# Altium footprint library CAPAE1080X550N.PcbLib: 1 footprints
Each footprint in its own frame and in the unit in brackets; x right, y up, seen from the top. Pads: shape width x height; smd on the part's side, far side on the other; paste and mask are expansions set on the pad; w line width, h text height; cw(c..) or ccw(c..) is an arc to the next point about the centre after c.
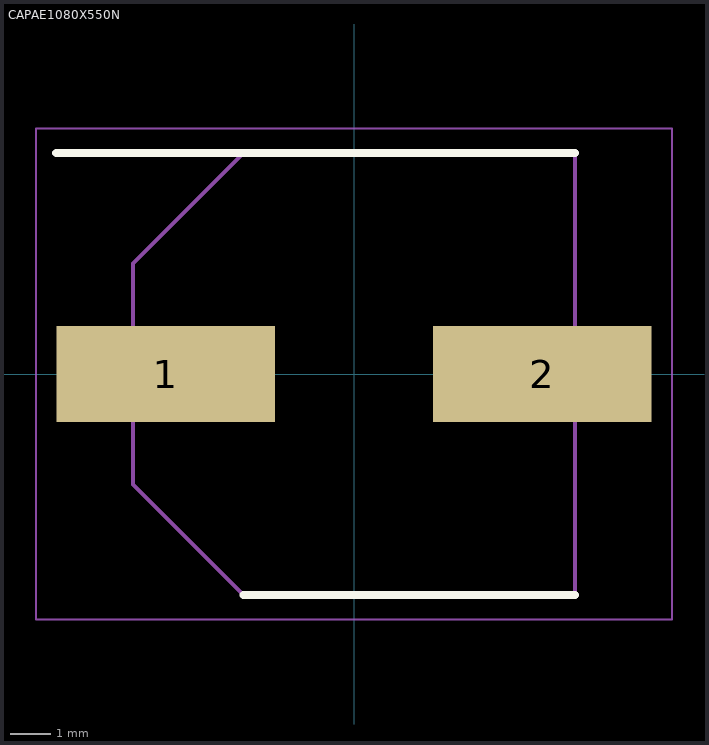
[diagram p0: the footprint, top view; thin cyan lines are the x and y axes]

## CAPAE1080X550N [mm]
pads (2):
  rect 5.35x2.35 smd: 1(-4.6,0) 2(4.6,0)
Top Overlay:
  lines w0.2: -7.275,5.4 5.4,5.4 ; -2.7,-5.4 5.4,-5.4
Mechanical 15:
  lines w0.1: -5.4,-2.7 -5.4,2.7 -2.7,5.4 5.4,5.4 5.4,-5.4 -2.7,-5.4 -5.4,-2.7
Mechanical 20:
  lines w0.05: -7.775,-6 7.775,-6 7.775,6 -7.775,6 -7.775,-6